# EAGLE library part 2X5FEET (library 629)
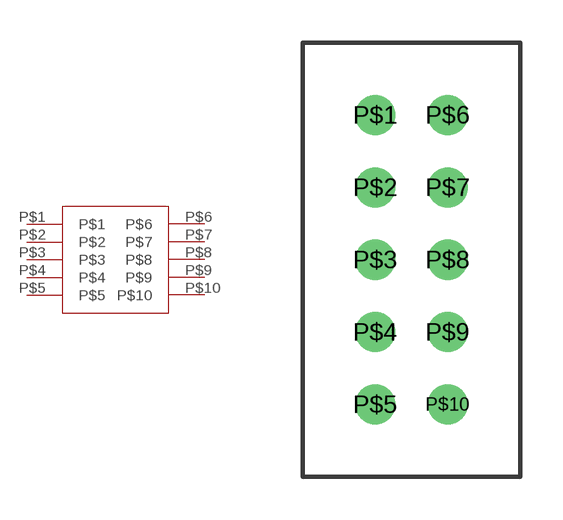
[diagram p4: symbol with the pads of 2X5FEET; footprint 2X5FEET]

Designator prefix -

## 2X5FEET  [2X5FEET]
P$1  P$1
P$2  P$2
P$3  P$3
P$4  P$4
P$5  P$5
P$6  P$6
P$7  P$7
P$8  P$8
P$9  P$9
P$10  P$10

## Footprint 2X5FEET (pad centres in mm)
drill 0.9: P$1 0,-2.54; P$2 0,-5.08; P$3 0,-7.62; P$4 0,-10.16; P$5 0,-12.7; P$6 2.54,-2.54; P$7 2.54,-5.08; P$8 2.54,-7.62; P$9 2.54,-10.16; P$10 2.54,-12.7